# Altium integrated library Silicon Labs Capacitive Touch Sense MCUs.IntLib: 96 symbols (part 1 of 5)
Pins are listed as number, name and electrical type; pins without a type are passive.

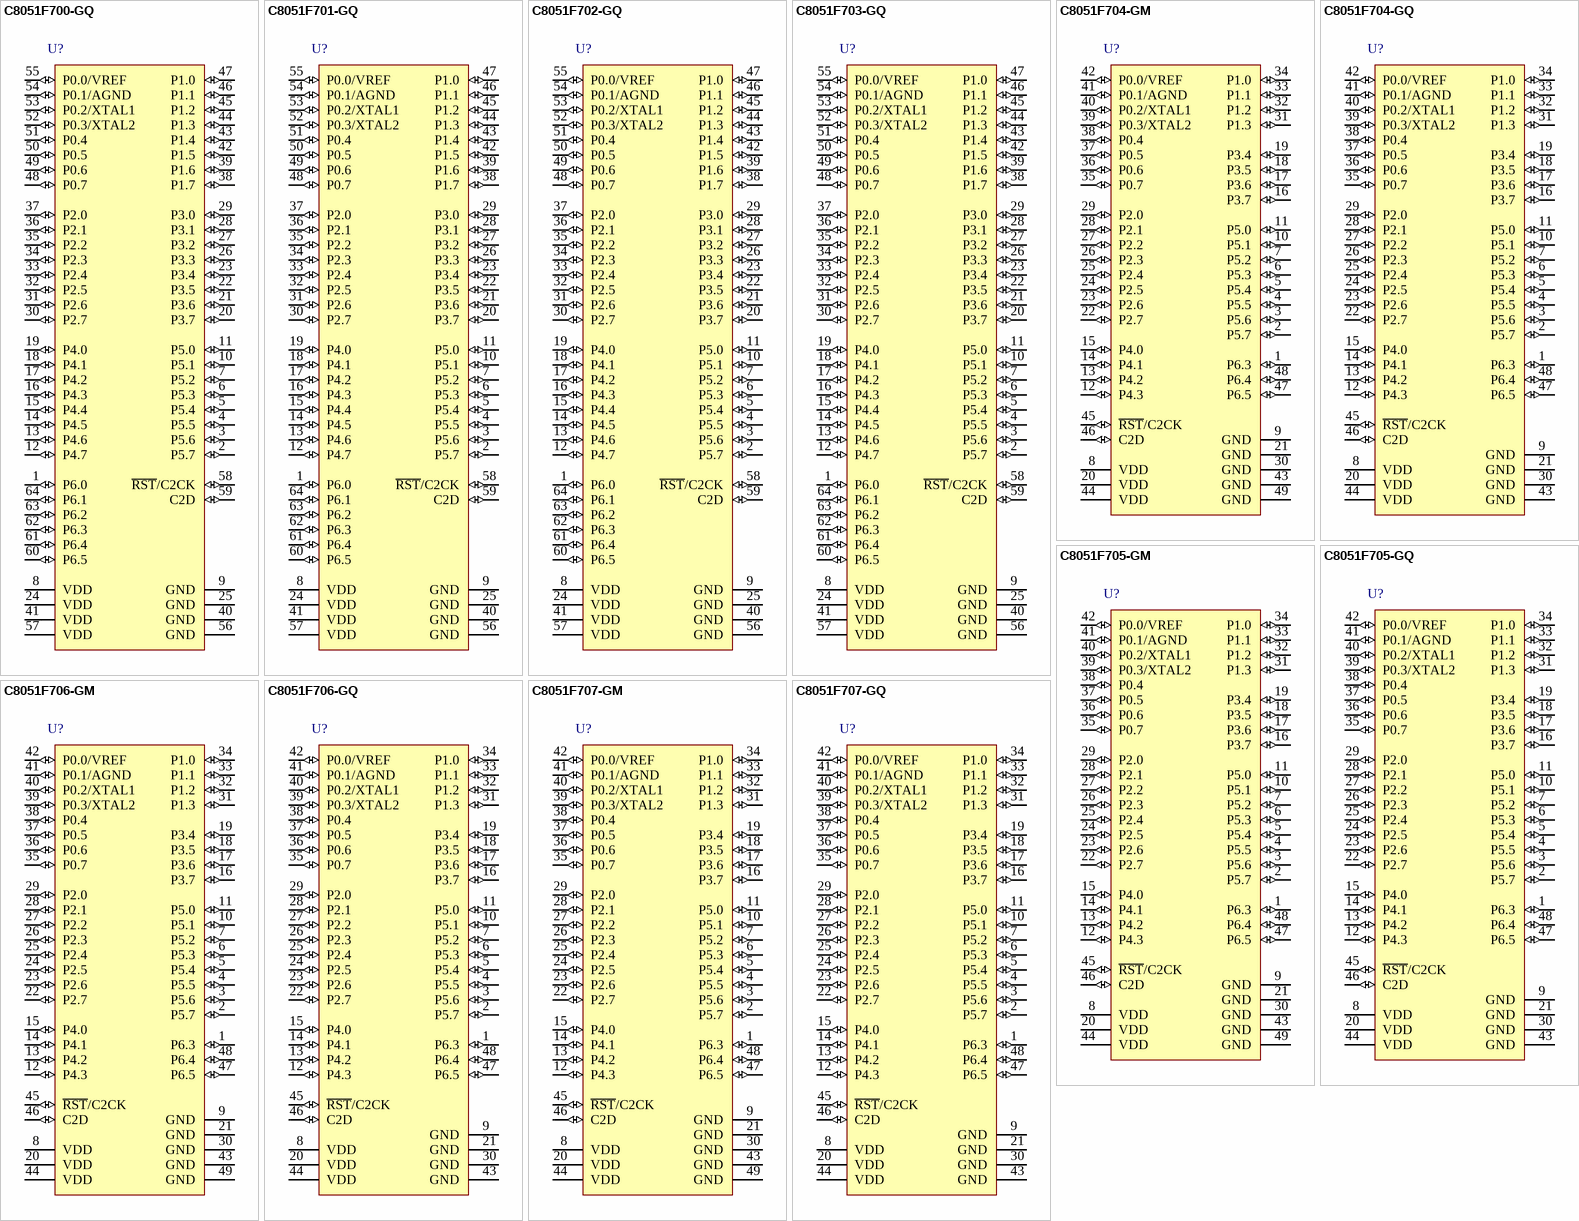
[diagram p0: symbols C8051F700-GQ to C8051F707-GQ]

## C8051F700-GQ
designator U?
Mixed Signal ISP Flash MCU Family, 25 MHz, 0.5 kB RAM, 15 kB Flash, -40 to 85 degC, 64-pin QFP; Manufacturer: Silicon Labs; PartNumber: C8051F700-GQ; ADC 1: 10-bit, 16-ch., 500 ksps; Comparators: 1; Debug Interface: C2; Dig I/O Pins: 54; Flash: 15 kB; Internal Osc. Accuracy: +/-2%; MCU Core: 8051; MHz: 25; PCA Channels: 3; RAM: 0.5 kB; Temp Sensor: TRUE; Timers (16-bit): 4; Sub-Family: Capacitive Touch Sense MCUs; DatasheetVersion: Rev. 1.0; PackageReference: TQFP-64; PackageDescription: 64-Pin Thin Quad Flat Package, Body 10 x 10 mm, Pitch 0.5 mm; Supplier 1: Digi-Key; Supplier Part Number 1: 336-1605-ND; Supplier 2: Mouser; Supplier Part Number 2: 634-C8051F700-GQ; Mounting Technology: Surface Mount; Code_JEDEC: MS-026; Code_IPC: J-STD-020; ComponentLink1Description: Manufacturer URL; ComponentLink1URL: http://www.silabs.com/; ComponentLink2Description: Datasheet; ComponentLink2URL: http://www.silabs.com/Support Documents/TechnicalDocs/C8051F70x.pdf; ComponentLink3Description: Package Specification; ComponentLink3URL: http://www.silabs.com/Support%20Documents/TechnicalDocs/C8051F70x.pdf
footprint SLAB-TQFP-64_N (QFP, 64-Leads, Body 10x10mm, Pitch 0.5mm, IPC Medium Density)
footprint SLAB-TQFP-64_L (QFP, 64-Leads, Body 10x10mm, Pitch 0.5mm, IPC High Density)
footprint SLAB-TQFP-64_M (QFP, 64-Leads, Body 10x10mm, Pitch 0.5mm, IPC Low Density)
pins: 1 P6.0 (io) "Port 6.0. CS0 input pin 33.", 2 P5.7 (io) "Port 5.7. CS0 input pin 32.", 3 P5.6 (io) "Port 5.6. CS0 input pin 31.", 4 P5.5 (io) "Port 5.5. CS0 input pin 30.", 5 P5.4 (io) "Port 5.4. CS0 input pin 29.", 6 P5.3 (io) "Port 5.3. CS0 input pin 28.", 7 P5.2 (io) "Port 5.2. CS0 input pin 27", 8 VDD (power) "Power Supply Voltage", 9 GND (power) "Ground.", 10 P5.1 (io) "Port 5.0. CS0 input pin 26.", 11 P5.0 (io) "Port 5.0. CS0 input pin 25.", 12 P4.7 (io) "Port 4.7. CS0 input pin 24.", 13 P4.6 (io) "Port 4.6. CS0 input pin 23.", 14 P4.5 (io) "Port 4.5. CS0 input pin 22.", 15 P4.4 (io) "Port 4.4. CS0 input pin 21.", 16 P4.3 (io) "Port 4.3. CS0 input pin 20.", 17 P4.2 (io) "Port 4.2. CS0 input pin 19.", 18 P4.1 (io) "Port 4.1. CS0 input pin 18.", 19 P4.0 (io) "Port 4.0. CS0 input pin 17.", 20 P3.7 (io) "Port 3.7. CS0 input pin 16.", 21 P3.6 (io) "Port 3.6. CS0 input pin 15.", 22 P3.5 (io) "Port 3.5. CS0 input pin 14.", 23 P3.4 (io) "Port 3.4. CS0 input pin 13.", 24 VDD (power) "Power Supply Voltage", 25 GND (power) "Ground.", 26 P3.3 (io) "Port 3.3. CS0 input pin 12.", 27 P3.2 (io) "Port 3.2. CS0 input pin 11.", 28 P3.1 (io) "Port 3.1. CS0 input pin 10.", 29 P3.0 (io) "Port 3.0. CS0 input pin 9.", 30 P2.7 (io) "Port 2.7. CS0 input pin 8.", 31 P2.6 (io) "Port 2.6. CS0 input pin 7.", 32 P2.5 (io) "Port 2.5. CS0 input pin 6.", 33 P2.4 (io) "Port 2.4. CS0 input pin 5.", 34 P2.3 (io) "Port 2.3. CS0 input pin 4.", 35 P2.2 (io) "Port 2.2. CS0 input pin 3.", 36 P2.1 (io) "Port 2.1. CS0 input pin 2.", 37 P2.0 (io) "Port 2.0. CS0 input pin 1.", 38 P1.7 (io) "Port 1.7. ADC0 Input.", 39 P1.6 (io) "Port 1.6. ADC0 Input.", 40 GND (power) "Ground.", 41 VDD (power) "Power Supply Voltage", 42 P1.5 (io) "Port 1.5. ADC0 Input.", 43 P1.4 (io) "Port 1.4. ADC0 Input.", 44 P1.3 (io) "Port 1.3. ADC0 Input.", 45 P1.2 (io) "Port 1.2. ADC0 Input.", 46 P1.1 (io) "Port 1.1. ADC0 Input.", 47 P1.0 (io) "Port 1.0. ADC0 Input.", 48 P0.7 (io) "Port 0.7. ADC0 Input.", 49 P0.6 (io) "Port 0.6. ADC0 Input.", 50 P0.5 (io) "Port 0.5. ADC0 Input.", 51 P0.4 (io) "Port 0.4. ADC0 Input.", 52 P0.3/XTAL2 (io), 53 P0.2/XTAL1 (io), 54 P0.1/AGND (io), 55 P0.0/VREF (io), 56 GND (power) "Ground.", 57 VDD (power) "Power Supply Voltage", 58 ~{RST}/C2CK (io), 59 C2D (io) "Bi-directional data signal for the C2 Debug Interface.", 60 P6.5 (io) "Port 6.5. CS0 input pin 38.", 61 P6.4 (io) "Port 6.4. CS0 input pin 37.", 62 P6.3 (io) "Port 6.3. CS0 input pin 36.", 63 P6.2 (io) "Port 6.2. CS0 input pin 35.", 64 P6.1 (io) "Port 6.1. CS0 input pin 34."

## C8051F701-GQ
designator U?
Mixed Signal ISP Flash MCU Family, 25 MHz, 0.5 kB RAM, 15 kB Flash, -40 to 85 degC, 64-pin QFP; Manufacturer: Silicon Labs; PartNumber: C8051F701-GQ; Comparators: 1; Debug Interface: C2; Dig I/O Pins: 54; Flash: 15 kB; Internal Osc. Accuracy: +/-2%; MCU Core: 8051; MHz: 25; PCA Channels: 3; RAM: 0.5 kB; Temp Sensor: FALSE; Timers (16-bit): 4; Sub-Family: Capacitive Touch Sense MCUs; DatasheetVersion: Rev. 1.0; PackageReference: TQFP-64; PackageDescription: 64-Pin Thin Quad Flat Package, Body 10 x 10 mm, Pitch 0.5 mm; Supplier 1: Digi-Key; Supplier Part Number 1: 336-1607-ND; Supplier 2: Mouser; Supplier Part Number 2: 634-C8051F701-GQ; Mounting Technology: Surface Mount; Code_JEDEC: MS-026; Code_IPC: J-STD-020; ComponentLink1Description: Manufacturer URL; ComponentLink1URL: http://www.silabs.com/; ComponentLink2Description: Datasheet; ComponentLink2URL: http://www.silabs.com/Support Documents/TechnicalDocs/C8051F70x.pdf; ComponentLink3Description: Package Specification; ComponentLink3URL: http://www.silabs.com/Support%20Documents/TechnicalDocs/C8051F70x.pdf
footprint SLAB-TQFP-64_N (QFP, 64-Leads, Body 10x10mm, Pitch 0.5mm, IPC Medium Density)
footprint SLAB-TQFP-64_L (QFP, 64-Leads, Body 10x10mm, Pitch 0.5mm, IPC High Density)
footprint SLAB-TQFP-64_M (QFP, 64-Leads, Body 10x10mm, Pitch 0.5mm, IPC Low Density)
pins: 1 P6.0 (io) "Port 6.0. CS0 input pin 33.", 2 P5.7 (io) "Port 5.7. CS0 input pin 32.", 3 P5.6 (io) "Port 5.6. CS0 input pin 31.", 4 P5.5 (io) "Port 5.5. CS0 input pin 30.", 5 P5.4 (io) "Port 5.4. CS0 input pin 29.", 6 P5.3 (io) "Port 5.3. CS0 input pin 28.", 7 P5.2 (io) "Port 5.2. CS0 input pin 27", 8 VDD (power) "Power Supply Voltage", 9 GND (power) "Ground.", 10 P5.1 (io) "Port 5.0. CS0 input pin 26.", 11 P5.0 (io) "Port 5.0. CS0 input pin 25.", 12 P4.7 (io) "Port 4.7. CS0 input pin 24.", 13 P4.6 (io) "Port 4.6. CS0 input pin 23.", 14 P4.5 (io) "Port 4.5. CS0 input pin 22.", 15 P4.4 (io) "Port 4.4. CS0 input pin 21.", 16 P4.3 (io) "Port 4.3. CS0 input pin 20.", 17 P4.2 (io) "Port 4.2. CS0 input pin 19.", 18 P4.1 (io) "Port 4.1. CS0 input pin 18.", 19 P4.0 (io) "Port 4.0. CS0 input pin 17.", 20 P3.7 (io) "Port 3.7. CS0 input pin 16.", 21 P3.6 (io) "Port 3.6. CS0 input pin 15.", 22 P3.5 (io) "Port 3.5. CS0 input pin 14.", 23 P3.4 (io) "Port 3.4. CS0 input pin 13.", 24 VDD (power) "Power Supply Voltage", 25 GND (power) "Ground.", 26 P3.3 (io) "Port 3.3. CS0 input pin 12.", 27 P3.2 (io) "Port 3.2. CS0 input pin 11.", 28 P3.1 (io) "Port 3.1. CS0 input pin 10.", 29 P3.0 (io) "Port 3.0. CS0 input pin 9.", 30 P2.7 (io) "Port 2.7. CS0 input pin 8.", 31 P2.6 (io) "Port 2.6. CS0 input pin 7.", 32 P2.5 (io) "Port 2.5. CS0 input pin 6.", 33 P2.4 (io) "Port 2.4. CS0 input pin 5.", 34 P2.3 (io) "Port 2.3. CS0 input pin 4.", 35 P2.2 (io) "Port 2.2. CS0 input pin 3.", 36 P2.1 (io) "Port 2.1. CS0 input pin 2.", 37 P2.0 (io) "Port 2.0. CS0 input pin 1.", 38 P1.7 (io) "Port 1.7. ADC0 Input.", 39 P1.6 (io) "Port 1.6. ADC0 Input.", 40 GND (power) "Ground.", 41 VDD (power) "Power Supply Voltage", 42 P1.5 (io) "Port 1.5. ADC0 Input.", 43 P1.4 (io) "Port 1.4. ADC0 Input.", 44 P1.3 (io) "Port 1.3. ADC0 Input.", 45 P1.2 (io) "Port 1.2. ADC0 Input.", 46 P1.1 (io) "Port 1.1. ADC0 Input.", 47 P1.0 (io) "Port 1.0. ADC0 Input.", 48 P0.7 (io) "Port 0.7. ADC0 Input.", 49 P0.6 (io) "Port 0.6. ADC0 Input.", 50 P0.5 (io) "Port 0.5. ADC0 Input.", 51 P0.4 (io) "Port 0.4. ADC0 Input.", 52 P0.3/XTAL2 (io), 53 P0.2/XTAL1 (io), 54 P0.1/AGND (io), 55 P0.0/VREF (io), 56 GND (power) "Ground.", 57 VDD (power) "Power Supply Voltage", 58 ~{RST}/C2CK (io), 59 C2D (io) "Bi-directional data signal for the C2 Debug Interface.", 60 P6.5 (io) "Port 6.5. CS0 input pin 38.", 61 P6.4 (io) "Port 6.4. CS0 input pin 37.", 62 P6.3 (io) "Port 6.3. CS0 input pin 36.", 63 P6.2 (io) "Port 6.2. CS0 input pin 35.", 64 P6.1 (io) "Port 6.1. CS0 input pin 34."

## C8051F702-GQ
designator U?
Mixed Signal ISP Flash MCU Family, 25 MHz, 0.5 kB RAM, 16 kB Flash, -40 to 85 degC, 64-pin QFP; Manufacturer: Silicon Labs; PartNumber: C8051F702-GQ; ADC 1: 10-bit, 16-ch., 500 ksps; Comparators: 1; Debug Interface: C2; Dig I/O Pins: 54; Flash: 16 kB; Internal Osc. Accuracy: +/-2%; MCU Core: 8051; MHz: 25; PCA Channels: 3; RAM: 0.5 kB; Temp Sensor: TRUE; Timers (16-bit): 4; Sub-Family: Capacitive Touch Sense MCUs; DatasheetVersion: Rev. 1.0; PackageReference: TQFP-64; PackageDescription: 64-Pin Thin Quad Flat Package, Body 10 x 10 mm, Pitch 0.5 mm; Supplier 1: Digi-Key; Supplier Part Number 1: 336-1608-ND; Supplier 2: Mouser; Supplier Part Number 2: 634-C8051F702-GQ; Mounting Technology: Surface Mount; Code_JEDEC: MS-026; Code_IPC: J-STD-020; ComponentLink1Description: Manufacturer URL; ComponentLink1URL: http://www.silabs.com/; ComponentLink2Description: Datasheet; ComponentLink2URL: http://www.silabs.com/Support Documents/TechnicalDocs/C8051F70x.pdf; ComponentLink3Description: Package Specification; ComponentLink3URL: http://www.silabs.com/Support%20Documents/TechnicalDocs/C8051F70x.pdf
footprint SLAB-TQFP-64_N (QFP, 64-Leads, Body 10x10mm, Pitch 0.5mm, IPC Medium Density)
footprint SLAB-TQFP-64_L (QFP, 64-Leads, Body 10x10mm, Pitch 0.5mm, IPC High Density)
footprint SLAB-TQFP-64_M (QFP, 64-Leads, Body 10x10mm, Pitch 0.5mm, IPC Low Density)
pins: 1 P6.0 (io) "Port 6.0. CS0 input pin 33.", 2 P5.7 (io) "Port 5.7. CS0 input pin 32.", 3 P5.6 (io) "Port 5.6. CS0 input pin 31.", 4 P5.5 (io) "Port 5.5. CS0 input pin 30.", 5 P5.4 (io) "Port 5.4. CS0 input pin 29.", 6 P5.3 (io) "Port 5.3. CS0 input pin 28.", 7 P5.2 (io) "Port 5.2. CS0 input pin 27", 8 VDD (power) "Power Supply Voltage", 9 GND (power) "Ground.", 10 P5.1 (io) "Port 5.0. CS0 input pin 26.", 11 P5.0 (io) "Port 5.0. CS0 input pin 25.", 12 P4.7 (io) "Port 4.7. CS0 input pin 24.", 13 P4.6 (io) "Port 4.6. CS0 input pin 23.", 14 P4.5 (io) "Port 4.5. CS0 input pin 22.", 15 P4.4 (io) "Port 4.4. CS0 input pin 21.", 16 P4.3 (io) "Port 4.3. CS0 input pin 20.", 17 P4.2 (io) "Port 4.2. CS0 input pin 19.", 18 P4.1 (io) "Port 4.1. CS0 input pin 18.", 19 P4.0 (io) "Port 4.0. CS0 input pin 17.", 20 P3.7 (io) "Port 3.7. CS0 input pin 16.", 21 P3.6 (io) "Port 3.6. CS0 input pin 15.", 22 P3.5 (io) "Port 3.5. CS0 input pin 14.", 23 P3.4 (io) "Port 3.4. CS0 input pin 13.", 24 VDD (power) "Power Supply Voltage", 25 GND (power) "Ground.", 26 P3.3 (io) "Port 3.3. CS0 input pin 12.", 27 P3.2 (io) "Port 3.2. CS0 input pin 11.", 28 P3.1 (io) "Port 3.1. CS0 input pin 10.", 29 P3.0 (io) "Port 3.0. CS0 input pin 9.", 30 P2.7 (io) "Port 2.7. CS0 input pin 8.", 31 P2.6 (io) "Port 2.6. CS0 input pin 7.", 32 P2.5 (io) "Port 2.5. CS0 input pin 6.", 33 P2.4 (io) "Port 2.4. CS0 input pin 5.", 34 P2.3 (io) "Port 2.3. CS0 input pin 4.", 35 P2.2 (io) "Port 2.2. CS0 input pin 3.", 36 P2.1 (io) "Port 2.1. CS0 input pin 2.", 37 P2.0 (io) "Port 2.0. CS0 input pin 1.", 38 P1.7 (io) "Port 1.7. ADC0 Input.", 39 P1.6 (io) "Port 1.6. ADC0 Input.", 40 GND (power) "Ground.", 41 VDD (power) "Power Supply Voltage", 42 P1.5 (io) "Port 1.5. ADC0 Input.", 43 P1.4 (io) "Port 1.4. ADC0 Input.", 44 P1.3 (io) "Port 1.3. ADC0 Input.", 45 P1.2 (io) "Port 1.2. ADC0 Input.", 46 P1.1 (io) "Port 1.1. ADC0 Input.", 47 P1.0 (io) "Port 1.0. ADC0 Input.", 48 P0.7 (io) "Port 0.7. ADC0 Input.", 49 P0.6 (io) "Port 0.6. ADC0 Input.", 50 P0.5 (io) "Port 0.5. ADC0 Input.", 51 P0.4 (io) "Port 0.4. ADC0 Input.", 52 P0.3/XTAL2 (io), 53 P0.2/XTAL1 (io), 54 P0.1/AGND (io), 55 P0.0/VREF (io), 56 GND (power) "Ground.", 57 VDD (power) "Power Supply Voltage", 58 ~{RST}/C2CK (io), 59 C2D (io) "Bi-directional data signal for the C2 Debug Interface.", 60 P6.5 (io) "Port 6.5. CS0 input pin 38.", 61 P6.4 (io) "Port 6.4. CS0 input pin 37.", 62 P6.3 (io) "Port 6.3. CS0 input pin 36.", 63 P6.2 (io) "Port 6.2. CS0 input pin 35.", 64 P6.1 (io) "Port 6.1. CS0 input pin 34."

## C8051F703-GQ
designator U?
Mixed Signal ISP Flash MCU Family, 25 MHz, 0.5 kB RAM, 16 kB Flash, -40 to 85 degC, 64-pin QFP; Manufacturer: Silicon Labs; PartNumber: C8051F703-GQ; Comparators: 1; Debug Interface: C2; Dig I/O Pins: 54; Flash: 16 kB; Internal Osc. Accuracy: +/-2%; MCU Core: 8051; MHz: 25; PCA Channels: 3; RAM: 0.5 kB; Temp Sensor: FALSE; Timers (16-bit): 4; Sub-Family: Capacitive Touch Sense MCUs; DatasheetVersion: Rev. 1.0; PackageReference: TQFP-64; PackageDescription: 64-Pin Thin Quad Flat Package, Body 10 x 10 mm, Pitch 0.5 mm; Supplier 1: Digi-Key; Supplier Part Number 1: 336-1609-ND; Supplier 2: Mouser; Supplier Part Number 2: 634-C8051F703-GQ; Mounting Technology: Surface Mount; Code_JEDEC: MS-026; Code_IPC: J-STD-020; ComponentLink1Description: Manufacturer URL; ComponentLink1URL: http://www.silabs.com/; ComponentLink2Description: Datasheet; ComponentLink2URL: http://www.silabs.com/Support Documents/TechnicalDocs/C8051F70x.pdf; ComponentLink3Description: Package Specification; ComponentLink3URL: http://www.silabs.com/Support%20Documents/TechnicalDocs/C8051F70x.pdf
footprint SLAB-TQFP-64_N (QFP, 64-Leads, Body 10x10mm, Pitch 0.5mm, IPC Medium Density)
footprint SLAB-TQFP-64_L (QFP, 64-Leads, Body 10x10mm, Pitch 0.5mm, IPC High Density)
footprint SLAB-TQFP-64_M (QFP, 64-Leads, Body 10x10mm, Pitch 0.5mm, IPC Low Density)
pins: 1 P6.0 (io) "Port 6.0. CS0 input pin 33.", 2 P5.7 (io) "Port 5.7. CS0 input pin 32.", 3 P5.6 (io) "Port 5.6. CS0 input pin 31.", 4 P5.5 (io) "Port 5.5. CS0 input pin 30.", 5 P5.4 (io) "Port 5.4. CS0 input pin 29.", 6 P5.3 (io) "Port 5.3. CS0 input pin 28.", 7 P5.2 (io) "Port 5.2. CS0 input pin 27", 8 VDD (power) "Power Supply Voltage", 9 GND (power) "Ground.", 10 P5.1 (io) "Port 5.0. CS0 input pin 26.", 11 P5.0 (io) "Port 5.0. CS0 input pin 25.", 12 P4.7 (io) "Port 4.7. CS0 input pin 24.", 13 P4.6 (io) "Port 4.6. CS0 input pin 23.", 14 P4.5 (io) "Port 4.5. CS0 input pin 22.", 15 P4.4 (io) "Port 4.4. CS0 input pin 21.", 16 P4.3 (io) "Port 4.3. CS0 input pin 20.", 17 P4.2 (io) "Port 4.2. CS0 input pin 19.", 18 P4.1 (io) "Port 4.1. CS0 input pin 18.", 19 P4.0 (io) "Port 4.0. CS0 input pin 17.", 20 P3.7 (io) "Port 3.7. CS0 input pin 16.", 21 P3.6 (io) "Port 3.6. CS0 input pin 15.", 22 P3.5 (io) "Port 3.5. CS0 input pin 14.", 23 P3.4 (io) "Port 3.4. CS0 input pin 13.", 24 VDD (power) "Power Supply Voltage", 25 GND (power) "Ground.", 26 P3.3 (io) "Port 3.3. CS0 input pin 12.", 27 P3.2 (io) "Port 3.2. CS0 input pin 11.", 28 P3.1 (io) "Port 3.1. CS0 input pin 10.", 29 P3.0 (io) "Port 3.0. CS0 input pin 9.", 30 P2.7 (io) "Port 2.7. CS0 input pin 8.", 31 P2.6 (io) "Port 2.6. CS0 input pin 7.", 32 P2.5 (io) "Port 2.5. CS0 input pin 6.", 33 P2.4 (io) "Port 2.4. CS0 input pin 5.", 34 P2.3 (io) "Port 2.3. CS0 input pin 4.", 35 P2.2 (io) "Port 2.2. CS0 input pin 3.", 36 P2.1 (io) "Port 2.1. CS0 input pin 2.", 37 P2.0 (io) "Port 2.0. CS0 input pin 1.", 38 P1.7 (io) "Port 1.7. ADC0 Input.", 39 P1.6 (io) "Port 1.6. ADC0 Input.", 40 GND (power) "Ground.", 41 VDD (power) "Power Supply Voltage", 42 P1.5 (io) "Port 1.5. ADC0 Input.", 43 P1.4 (io) "Port 1.4. ADC0 Input.", 44 P1.3 (io) "Port 1.3. ADC0 Input.", 45 P1.2 (io) "Port 1.2. ADC0 Input.", 46 P1.1 (io) "Port 1.1. ADC0 Input.", 47 P1.0 (io) "Port 1.0. ADC0 Input.", 48 P0.7 (io) "Port 0.7. ADC0 Input.", 49 P0.6 (io) "Port 0.6. ADC0 Input.", 50 P0.5 (io) "Port 0.5. ADC0 Input.", 51 P0.4 (io) "Port 0.4. ADC0 Input.", 52 P0.3/XTAL2 (io), 53 P0.2/XTAL1 (io), 54 P0.1/AGND (io), 55 P0.0/VREF (io), 56 GND (power) "Ground.", 57 VDD (power) "Power Supply Voltage", 58 ~{RST}/C2CK (io), 59 C2D (io) "Bi-directional data signal for the C2 Debug Interface.", 60 P6.5 (io) "Port 6.5. CS0 input pin 38.", 61 P6.4 (io) "Port 6.4. CS0 input pin 37.", 62 P6.3 (io) "Port 6.3. CS0 input pin 36.", 63 P6.2 (io) "Port 6.2. CS0 input pin 35.", 64 P6.1 (io) "Port 6.1. CS0 input pin 34."

## C8051F704-GM
designator U?
Mixed Signal ISP Flash MCU Family, 25 MHz, 0.5 kB RAM, 15 kB Flash, -40 to 85 degC, 48-pin QFN; Manufacturer: Silicon Labs; PartNumber: C8051F704-GM; ADC 1: 10-bit, 12-ch., 500 ksps; Comparators: 1; Debug Interface: C2; Dig I/O Pins: 39; Flash: 15 kB; Internal Osc. Accuracy: +/-2%; MCU Core: 8051; MHz: 25; PCA Channels: 3; RAM: 0.5 kB; Temp Sensor: TRUE; Timers (16-bit): 4; Sub-Family: Capacitive Touch Sense MCUs; DatasheetVersion: Rev. 1.0; PackageReference: QFN-48; PackageDescription: 48-Pin Quad-Flat No-Leads Package, Body 7 x 7 mm, Pitch 0.5 mm; Supplier 1: Digi-Key; Supplier Part Number 1: 336-1610-5-ND; Supplier 2: Mouser; Supplier Part Number 2: 634-C8051F704-GM; Mounting Technology: Surface Mount; Code_JEDEC: MO-220; Code_IPC: J-STD-020; ComponentLink1Description: Manufacturer URL; ComponentLink1URL: http://www.silabs.com/; ComponentLink2Description: Datasheet; ComponentLink2URL: http://www.silabs.com/Support Documents/TechnicalDocs/C8051F70x.pdf; ComponentLink3Description: Package Specification; ComponentLink3URL: http://www.silabs.com/Support%20Documents/TechnicalDocs/C8051F50x-51x.pdf
footprint SLAB-QFN-48-4000x4000TP_N (QFN, 48-Leads, Body 7x7mm, Pitch 0.5mm, Thermal Pad 4x4mm, IPC Medium Density)
footprint SLAB-QFN-48-4000x4000TP_L (QFN, 48-Leads, Body 7x7mm, Pitch 0.5mm, Thermal Pad 4x4mm, IPC High Density)
footprint SLAB-QFN-48-4000x4000TP_M (QFN, 48-Leads, Body 7x7mm, Pitch 0.5mm, Thermal Pad 4x4mm, IPC Low Density)
pins: 1 P6.3 (io) "Port 6.3.CS0 input pin 36.", 2 P5.7 (io) "Port 5.7.CS0 input pin 32.", 3 P5.6 (io) "Port 5.6.CS0 input pin 31.", 4 P5.5 (io) "Port 5.5.CS0 input pin 30.", 5 P5.4 (io) "Port 5.4.CS0 input pin 29.", 6 P5.3 (io) "Port 5.3.CS0 input pin 28.", 7 P5.2 (io) "Port 5.2.CS0 input pin 27", 8 VDD (power) "Power Supply Voltage.", 9 GND (power) "Ground.", 10 P5.1 (io) "Port 5.1.CS0 input pin 26.", 11 P5.0 (io) "Port 5.0.CS0 input pin 25.", 12 P4.3 (io) "Port 4.3.CS0 input pin 20.", 13 P4.2 (io) "Port 4.2.CS0 input pin 19.", 14 P4.1 (io) "Port 4.1.CS0 input pin 18.", 15 P4.0 (io) "Port 4.0.CS0 input pin 17.", 16 P3.7 (io) "Port 3.7.CS0 input pin 16.", 17 P3.6 (io) "Port 3.6.CS0 input pin 15.", 18 P3.5 (io) "Port 3.5.CS0 input pin 14.", 19 P3.4 (io) "Port 3.4.CS0 input pin 13.", 20 VDD (power) "Power Supply Voltage.", 21 GND (power) "Ground.", 22 P2.7 (io) "Port 2.7.CS0 input pin 8.", 23 P2.6 (io) "Port 2.6.CS0 input pin 7.", 24 P2.5 (io) "Port 2.5.CS0 input pin 6.", 25 P2.4 (io) "Port 2.4.CS0 input pin 5.", 26 P2.3 (io) "Port 2.3.CS0 input pin 4.", 27 P2.2 (io) "Port 2.2.CS0 input pin 3.", 28 P2.1 (io) "Port 2.1.CS0 input pin 2.", 29 P2.0 (io) "Port 2.0.CS0 input pin 1.", 30 GND (power) "Ground.", 31 P1.3 (io) "Port 1.3.ADC0 Input.", 32 P1.2 (io) "Port 1.2.ADC0 Input.", 33 P1.1 (io) "Port 1.1.ADC0 Input.", 34 P1.0 (io) "Port 1.0.ADC0 Input.", 35 P0.7 (io) "Port 0.7.ADC0 Input.", 36 P0.6 (io) "Port 0.6.ADC0 Input.", 37 P0.5 (io) "Port 0.5.ADC0 Input.", 38 P0.4 (io) "Port 0.4.ADC0 Input.", 39 P0.3/XTAL2 (io), 40 P0.2/XTAL1 (io), 41 P0.1/AGND (io), 42 P0.0/VREF (io), 43 GND (power) "Ground.", 44 VDD (power) "Power Supply Voltage.", 45 ~{RST}/C2CK (io), 46 C2D (io) "Bi-directional data signal for the C2 Debug Interface.", 47 P6.5 (io) "Port 6.5.CS0 input pin 38.", 48 P6.4 (io) "Port 6.4.CS0 input pin 37.", 49 GND (power) "Ground."

## C8051F704-GQ
designator U?
Mixed Signal ISP Flash MCU Family, 25 MHz, 0.5 kB RAM, 15 kB Flash, -40 to 85 degC, 48-pin QFP; Manufacturer: Silicon Labs; PartNumber: C8051F704-GQ; ADC 1: 10-bit, 12-ch., 500 ksps; Comparators: 1; Debug Interface: C2; Dig I/O Pins: 39; Flash: 15 kB; Internal Osc. Accuracy: +/-2%; MCU Core: 8051; MHz: 25; PCA Channels: 3; RAM: 0.5 kB; Temp Sensor: TRUE; Timers (16-bit): 4; Sub-Family: Capacitive Touch Sense MCUs; DatasheetVersion: Rev. 1.0; PackageReference: TQFP-48; PackageDescription: 48-pin TQFP, Body 7 x 7 mm, Pitch 0.5 mm; Supplier 1: Digi-Key; Supplier Part Number 1: 336-1611-ND; Supplier 2: Mouser; Supplier Part Number 2: 634-C8051F704-GQ; Mounting Technology: Surface Mount; Code_JEDEC: MS-026; Code_IPC: J-STD-020; ComponentLink1Description: Manufacturer URL; ComponentLink1URL: http://www.silabs.com/; ComponentLink2Description: Datasheet; ComponentLink2URL: http://www.silabs.com/Support Documents/TechnicalDocs/C8051F70x.pdf; ComponentLink3Description: Package Specification; ComponentLink3URL: http://www.silabs.com/Support%20Documents/TechnicalDocs/CP2200.pdf
footprint SLAB-TQFP-48_N (QFP, 48-Leads, Body 7x7mm, Pitch 0.5mm, IPC Medium Density)
footprint SLAB-TQFP-48_L (QFP, 48-Leads, Body 7x7mm, Pitch 0.5mm, IPC High Density)
footprint SLAB-TQFP-48_M (QFP, 48-Leads, Body 7x7mm, Pitch 0.5mm, IPC Low Density)
pins: 1 P6.3 (io) "Port 6.3.", 2 P5.7 (io) "Port 5.7.", 3 P5.6 (io) "Port 5.6.", 4 P5.5 (io) "Port 5.5.", 5 P5.4 (io) "Port 5.4.", 6 P5.3 (io) "Port 5.3.", 7 P5.2 (io) "Port 5.2.", 8 VDD (power) "Power Supply Voltage.", 9 GND (power) "Ground.", 10 P5.1 (io) "Port 5.1.", 11 P5.0 (io) "Port 5.0.", 12 P4.3 (io) "Port 4.3.", 13 P4.2 (io) "Port 4.2.", 14 P4.1 (io) "Port 4.1.", 15 P4.0 (io) "Port 4.0.", 16 P3.7 (io) "Port 3.7.", 17 P3.6 (io) "Port 3.6.", 18 P3.5 (io) "Port 3.5.", 19 P3.4 (io) "Port 3.4.", 20 VDD (power) "Power Supply Voltage.", 21 GND (power) "Ground.", 22 P2.7 (io) "Port 2.7.", 23 P2.6 (io) "Port 2.6.", 24 P2.5 (io) "Port 2.5.", 25 P2.4 (io) "Port 2.4.", 26 P2.3 (io) "Port 2.3.", 27 P2.2 (io) "Port 2.2.", 28 P2.1 (io) "Port 2.1.", 29 P2.0 (io) "Port 2.0.", 30 GND (power) "Ground.", 31 P1.3 (io) "Port 1.3.", 32 P1.2 (io) "Port 1.2.", 33 P1.1 (io) "Port 1.1.", 34 P1.0 (io) "Port 1.0.", 35 P0.7 (io) "Port 0.7.", 36 P0.6 (io) "Port 0.6.", 37 P0.5 (io) "Port 0.5.", 38 P0.4 (io) "Port 0.4.", 39 P0.3/XTAL2 (io), 40 P0.2/XTAL1 (io), 41 P0.1/AGND (io), 42 P0.0/VREF (io), 43 GND (power) "Ground.", 44 VDD (power) "Power Supply Voltage.", 45 ~{RST}/C2CK (io), 46 C2D (io) "Bi-directional data signal for the C2 Debug Interface.", 47 P6.5 (io) "Port 6.5.", 48 P6.4 (io) "Port 6.4."

## C8051F705-GM
designator U?
Mixed Signal ISP Flash MCU Family, 25 MHz, 0.5 kB RAM, 15 kB Flash, -40 to 85 degC, 48-pin QFN; Manufacturer: Silicon Labs; PartNumber: C8051F705-GM; Comparators: 1; Debug Interface: C2; Dig I/O Pins: 39; Flash: 15 kB; Internal Osc. Accuracy: +/-2%; MCU Core: 8051; MHz: 25; PCA Channels: 3; RAM: 0.5 kB; Temp Sensor: FALSE; Timers (16-bit): 4; Sub-Family: Capacitive Touch Sense MCUs; DatasheetVersion: Rev. 1.0; PackageReference: QFN-48; PackageDescription: 48-Pin Quad-Flat No-Leads Package, Body 7 x 7 mm, Pitch 0.5 mm; Supplier 1: Digi-Key; Supplier Part Number 1: 336-1612-5-ND; Supplier 2: Mouser; Supplier Part Number 2: 634-C8051F705-GM; Mounting Technology: Surface Mount; Code_JEDEC: MO-220; Code_IPC: J-STD-020; ComponentLink1Description: Manufacturer URL; ComponentLink1URL: http://www.silabs.com/; ComponentLink2Description: Datasheet; ComponentLink2URL: http://www.silabs.com/Support Documents/TechnicalDocs/C8051F70x.pdf; ComponentLink3Description: Package Specification; ComponentLink3URL: http://www.silabs.com/Support%20Documents/TechnicalDocs/C8051F50x-51x.pdf
footprint SLAB-QFN-48-4000x4000TP_N (QFN, 48-Leads, Body 7x7mm, Pitch 0.5mm, Thermal Pad 4x4mm, IPC Medium Density)
footprint SLAB-QFN-48-4000x4000TP_L (QFN, 48-Leads, Body 7x7mm, Pitch 0.5mm, Thermal Pad 4x4mm, IPC High Density)
footprint SLAB-QFN-48-4000x4000TP_M (QFN, 48-Leads, Body 7x7mm, Pitch 0.5mm, Thermal Pad 4x4mm, IPC Low Density)
pins: 1 P6.3 (io) "Port 6.3.CS0 input pin 36.", 2 P5.7 (io) "Port 5.7.CS0 input pin 32.", 3 P5.6 (io) "Port 5.6.CS0 input pin 31.", 4 P5.5 (io) "Port 5.5.CS0 input pin 30.", 5 P5.4 (io) "Port 5.4.CS0 input pin 29.", 6 P5.3 (io) "Port 5.3.CS0 input pin 28.", 7 P5.2 (io) "Port 5.2.CS0 input pin 27", 8 VDD (power) "Power Supply Voltage.", 9 GND (power) "Ground.", 10 P5.1 (io) "Port 5.1.CS0 input pin 26.", 11 P5.0 (io) "Port 5.0.CS0 input pin 25.", 12 P4.3 (io) "Port 4.3.CS0 input pin 20.", 13 P4.2 (io) "Port 4.2.CS0 input pin 19.", 14 P4.1 (io) "Port 4.1.CS0 input pin 18.", 15 P4.0 (io) "Port 4.0.CS0 input pin 17.", 16 P3.7 (io) "Port 3.7.CS0 input pin 16.", 17 P3.6 (io) "Port 3.6.CS0 input pin 15.", 18 P3.5 (io) "Port 3.5.CS0 input pin 14.", 19 P3.4 (io) "Port 3.4.CS0 input pin 13.", 20 VDD (power) "Power Supply Voltage.", 21 GND (power) "Ground.", 22 P2.7 (io) "Port 2.7.CS0 input pin 8.", 23 P2.6 (io) "Port 2.6.CS0 input pin 7.", 24 P2.5 (io) "Port 2.5.CS0 input pin 6.", 25 P2.4 (io) "Port 2.4.CS0 input pin 5.", 26 P2.3 (io) "Port 2.3.CS0 input pin 4.", 27 P2.2 (io) "Port 2.2.CS0 input pin 3.", 28 P2.1 (io) "Port 2.1.CS0 input pin 2.", 29 P2.0 (io) "Port 2.0.CS0 input pin 1.", 30 GND (power) "Ground.", 31 P1.3 (io) "Port 1.3.ADC0 Input.", 32 P1.2 (io) "Port 1.2.ADC0 Input.", 33 P1.1 (io) "Port 1.1.ADC0 Input.", 34 P1.0 (io) "Port 1.0.ADC0 Input.", 35 P0.7 (io) "Port 0.7.ADC0 Input.", 36 P0.6 (io) "Port 0.6.ADC0 Input.", 37 P0.5 (io) "Port 0.5.ADC0 Input.", 38 P0.4 (io) "Port 0.4.ADC0 Input.", 39 P0.3/XTAL2 (io), 40 P0.2/XTAL1 (io), 41 P0.1/AGND (io), 42 P0.0/VREF (io), 43 GND (power) "Ground.", 44 VDD (power) "Power Supply Voltage.", 45 ~{RST}/C2CK (io), 46 C2D (io) "Bi-directional data signal for the C2 Debug Interface.", 47 P6.5 (io) "Port 6.5.CS0 input pin 38.", 48 P6.4 (io) "Port 6.4.CS0 input pin 37.", 49 GND (power) "Ground."

## C8051F705-GQ
designator U?
Mixed Signal ISP Flash MCU Family, 25 MHz, 0.5 kB RAM, 15 kB Flash, -40 to 85 degC, 48-pin QFP; Manufacturer: Silicon Labs; PartNumber: C8051F705-GQ; Comparators: 1; Debug Interface: C2; Dig I/O Pins: 39; Flash: 15 kB; Internal Osc. Accuracy: +/-2%; MCU Core: 8051; MHz: 25; PCA Channels: 3; RAM: 0.5 kB; Temp Sensor: FALSE; Timers (16-bit): 4; Sub-Family: Capacitive Touch Sense MCUs; DatasheetVersion: Rev. 1.0; PackageReference: TQFP-48; PackageDescription: 48-pin TQFP, Body 7 x 7 mm, Pitch 0.5 mm; Supplier 1: Digi-Key; Supplier Part Number 1: 336-1613-ND; Supplier 2: Mouser; Supplier Part Number 2: 634-C8051F705-GQ; Mounting Technology: Surface Mount; Code_JEDEC: MS-026; Code_IPC: J-STD-020; ComponentLink1Description: Manufacturer URL; ComponentLink1URL: http://www.silabs.com/; ComponentLink2Description: Datasheet; ComponentLink2URL: http://www.silabs.com/Support Documents/TechnicalDocs/C8051F70x.pdf; ComponentLink3Description: Package Specification; ComponentLink3URL: http://www.silabs.com/Support%20Documents/TechnicalDocs/CP2200.pdf
footprint SLAB-TQFP-48_N (QFP, 48-Leads, Body 7x7mm, Pitch 0.5mm, IPC Medium Density)
footprint SLAB-TQFP-48_L (QFP, 48-Leads, Body 7x7mm, Pitch 0.5mm, IPC High Density)
footprint SLAB-TQFP-48_M (QFP, 48-Leads, Body 7x7mm, Pitch 0.5mm, IPC Low Density)
pins: 1 P6.3 (io) "Port 6.3.", 2 P5.7 (io) "Port 5.7.", 3 P5.6 (io) "Port 5.6.", 4 P5.5 (io) "Port 5.5.", 5 P5.4 (io) "Port 5.4.", 6 P5.3 (io) "Port 5.3.", 7 P5.2 (io) "Port 5.2.", 8 VDD (power) "Power Supply Voltage.", 9 GND (power) "Ground.", 10 P5.1 (io) "Port 5.1.", 11 P5.0 (io) "Port 5.0.", 12 P4.3 (io) "Port 4.3.", 13 P4.2 (io) "Port 4.2.", 14 P4.1 (io) "Port 4.1.", 15 P4.0 (io) "Port 4.0.", 16 P3.7 (io) "Port 3.7.", 17 P3.6 (io) "Port 3.6.", 18 P3.5 (io) "Port 3.5.", 19 P3.4 (io) "Port 3.4.", 20 VDD (power) "Power Supply Voltage.", 21 GND (power) "Ground.", 22 P2.7 (io) "Port 2.7.", 23 P2.6 (io) "Port 2.6.", 24 P2.5 (io) "Port 2.5.", 25 P2.4 (io) "Port 2.4.", 26 P2.3 (io) "Port 2.3.", 27 P2.2 (io) "Port 2.2.", 28 P2.1 (io) "Port 2.1.", 29 P2.0 (io) "Port 2.0.", 30 GND (power) "Ground.", 31 P1.3 (io) "Port 1.3.", 32 P1.2 (io) "Port 1.2.", 33 P1.1 (io) "Port 1.1.", 34 P1.0 (io) "Port 1.0.", 35 P0.7 (io) "Port 0.7.", 36 P0.6 (io) "Port 0.6.", 37 P0.5 (io) "Port 0.5.", 38 P0.4 (io) "Port 0.4.", 39 P0.3/XTAL2 (io), 40 P0.2/XTAL1 (io), 41 P0.1/AGND (io), 42 P0.0/VREF (io), 43 GND (power) "Ground.", 44 VDD (power) "Power Supply Voltage.", 45 ~{RST}/C2CK (io), 46 C2D (io) "Bi-directional data signal for the C2 Debug Interface.", 47 P6.5 (io) "Port 6.5.", 48 P6.4 (io) "Port 6.4."

## C8051F706-GM
designator U?
Mixed Signal ISP Flash MCU Family, 25 MHz, 0.5 kB RAM, 16 kB Flash, -40 to 85 degC, 48-pin QFN; Manufacturer: Silicon Labs; PartNumber: C8051F706-GM; ADC 1: 10-bit, 12-ch., 500 ksps; Comparators: 1; Debug Interface: C2; Dig I/O Pins: 39; Flash: 16 kB; Internal Osc. Accuracy: +/-2%; MCU Core: 8051; MHz: 25; PCA Channels: 3; RAM: 0.5 kB; Temp Sensor: TRUE; Timers (16-bit): 4; Sub-Family: Capacitive Touch Sense MCUs; DatasheetVersion: Rev. 1.0; PackageReference: QFN-48; PackageDescription: 48-Pin Quad-Flat No-Leads Package, Body 7 x 7 mm, Pitch 0.5 mm; Supplier 1: Digi-Key; Supplier Part Number 1: 336-1604-5-ND; Supplier 2: Mouser; Supplier Part Number 2: 634-C8051F706-GM; Mounting Technology: Surface Mount; Code_JEDEC: MO-220; Code_IPC: J-STD-020; ComponentLink1Description: Manufacturer URL; ComponentLink1URL: http://www.silabs.com/; ComponentLink2Description: Datasheet; ComponentLink2URL: http://www.silabs.com/Support Documents/TechnicalDocs/C8051F70x.pdf; ComponentLink3Description: Package Specification; ComponentLink3URL: http://www.silabs.com/Support%20Documents/TechnicalDocs/C8051F50x-51x.pdf
footprint SLAB-QFN-48-4000x4000TP_N (QFN, 48-Leads, Body 7x7mm, Pitch 0.5mm, Thermal Pad 4x4mm, IPC Medium Density)
footprint SLAB-QFN-48-4000x4000TP_L (QFN, 48-Leads, Body 7x7mm, Pitch 0.5mm, Thermal Pad 4x4mm, IPC High Density)
footprint SLAB-QFN-48-4000x4000TP_M (QFN, 48-Leads, Body 7x7mm, Pitch 0.5mm, Thermal Pad 4x4mm, IPC Low Density)
pins: 1 P6.3 (io) "Port 6.3.CS0 input pin 36.", 2 P5.7 (io) "Port 5.7.CS0 input pin 32.", 3 P5.6 (io) "Port 5.6.CS0 input pin 31.", 4 P5.5 (io) "Port 5.5.CS0 input pin 30.", 5 P5.4 (io) "Port 5.4.CS0 input pin 29.", 6 P5.3 (io) "Port 5.3.CS0 input pin 28.", 7 P5.2 (io) "Port 5.2.CS0 input pin 27", 8 VDD (power) "Power Supply Voltage.", 9 GND (power) "Ground.", 10 P5.1 (io) "Port 5.1.CS0 input pin 26.", 11 P5.0 (io) "Port 5.0.CS0 input pin 25.", 12 P4.3 (io) "Port 4.3.CS0 input pin 20.", 13 P4.2 (io) "Port 4.2.CS0 input pin 19.", 14 P4.1 (io) "Port 4.1.CS0 input pin 18.", 15 P4.0 (io) "Port 4.0.CS0 input pin 17.", 16 P3.7 (io) "Port 3.7.CS0 input pin 16.", 17 P3.6 (io) "Port 3.6.CS0 input pin 15.", 18 P3.5 (io) "Port 3.5.CS0 input pin 14.", 19 P3.4 (io) "Port 3.4.CS0 input pin 13.", 20 VDD (power) "Power Supply Voltage.", 21 GND (power) "Ground.", 22 P2.7 (io) "Port 2.7.CS0 input pin 8.", 23 P2.6 (io) "Port 2.6.CS0 input pin 7.", 24 P2.5 (io) "Port 2.5.CS0 input pin 6.", 25 P2.4 (io) "Port 2.4.CS0 input pin 5.", 26 P2.3 (io) "Port 2.3.CS0 input pin 4.", 27 P2.2 (io) "Port 2.2.CS0 input pin 3.", 28 P2.1 (io) "Port 2.1.CS0 input pin 2.", 29 P2.0 (io) "Port 2.0.CS0 input pin 1.", 30 GND (power) "Ground.", 31 P1.3 (io) "Port 1.3.ADC0 Input.", 32 P1.2 (io) "Port 1.2.ADC0 Input.", 33 P1.1 (io) "Port 1.1.ADC0 Input.", 34 P1.0 (io) "Port 1.0.ADC0 Input.", 35 P0.7 (io) "Port 0.7.ADC0 Input.", 36 P0.6 (io) "Port 0.6.ADC0 Input.", 37 P0.5 (io) "Port 0.5.ADC0 Input.", 38 P0.4 (io) "Port 0.4.ADC0 Input.", 39 P0.3/XTAL2 (io), 40 P0.2/XTAL1 (io), 41 P0.1/AGND (io), 42 P0.0/VREF (io), 43 GND (power) "Ground.", 44 VDD (power) "Power Supply Voltage.", 45 ~{RST}/C2CK (io), 46 C2D (io) "Bi-directional data signal for the C2 Debug Interface.", 47 P6.5 (io) "Port 6.5.CS0 input pin 38.", 48 P6.4 (io) "Port 6.4.CS0 input pin 37.", 49 GND (power) "Ground."

## C8051F706-GQ
designator U?
Mixed Signal ISP Flash MCU Family, 25 MHz, 0.5 kB RAM, 16 kB Flash, -40 to 85 degC, 48-pin QFP; Manufacturer: Silicon Labs; PartNumber: C8051F706-GQ; ADC 1: 10-bit, 12-ch., 500 ksps; Comparators: 1; Debug Interface: C2; Dig I/O Pins: 39; Flash: 16 kB; Internal Osc. Accuracy: +/-2%; MCU Core: 8051; MHz: 25; PCA Channels: 3; RAM: 0.5 kB; Temp Sensor: TRUE; Timers (16-bit): 4; Sub-Family: Capacitive Touch Sense MCUs; DatasheetVersion: Rev. 1.0; PackageReference: TQFP-48; PackageDescription: 48-pin TQFP, Body 7 x 7 mm, Pitch 0.5 mm; Supplier 1: Digi-Key; Supplier Part Number 1: 336-1636-ND; Supplier 2: Mouser; Supplier Part Number 2: 634-C8051F706-GQ; Mounting Technology: Surface Mount; Code_JEDEC: MS-026; Code_IPC: J-STD-020; ComponentLink1Description: Manufacturer URL; ComponentLink1URL: http://www.silabs.com/; ComponentLink2Description: Datasheet; ComponentLink2URL: http://www.silabs.com/Support Documents/TechnicalDocs/C8051F70x.pdf; ComponentLink3Description: Package Specification; ComponentLink3URL: http://www.silabs.com/Support%20Documents/TechnicalDocs/CP2200.pdf
footprint SLAB-TQFP-48_N (QFP, 48-Leads, Body 7x7mm, Pitch 0.5mm, IPC Medium Density)
footprint SLAB-TQFP-48_L (QFP, 48-Leads, Body 7x7mm, Pitch 0.5mm, IPC High Density)
footprint SLAB-TQFP-48_M (QFP, 48-Leads, Body 7x7mm, Pitch 0.5mm, IPC Low Density)
pins: 1 P6.3 (io) "Port 6.3.", 2 P5.7 (io) "Port 5.7.", 3 P5.6 (io) "Port 5.6.", 4 P5.5 (io) "Port 5.5.", 5 P5.4 (io) "Port 5.4.", 6 P5.3 (io) "Port 5.3.", 7 P5.2 (io) "Port 5.2.", 8 VDD (power) "Power Supply Voltage.", 9 GND (power) "Ground.", 10 P5.1 (io) "Port 5.1.", 11 P5.0 (io) "Port 5.0.", 12 P4.3 (io) "Port 4.3.", 13 P4.2 (io) "Port 4.2.", 14 P4.1 (io) "Port 4.1.", 15 P4.0 (io) "Port 4.0.", 16 P3.7 (io) "Port 3.7.", 17 P3.6 (io) "Port 3.6.", 18 P3.5 (io) "Port 3.5.", 19 P3.4 (io) "Port 3.4.", 20 VDD (power) "Power Supply Voltage.", 21 GND (power) "Ground.", 22 P2.7 (io) "Port 2.7.", 23 P2.6 (io) "Port 2.6.", 24 P2.5 (io) "Port 2.5.", 25 P2.4 (io) "Port 2.4.", 26 P2.3 (io) "Port 2.3.", 27 P2.2 (io) "Port 2.2.", 28 P2.1 (io) "Port 2.1.", 29 P2.0 (io) "Port 2.0.", 30 GND (power) "Ground.", 31 P1.3 (io) "Port 1.3.", 32 P1.2 (io) "Port 1.2.", 33 P1.1 (io) "Port 1.1.", 34 P1.0 (io) "Port 1.0.", 35 P0.7 (io) "Port 0.7.", 36 P0.6 (io) "Port 0.6.", 37 P0.5 (io) "Port 0.5.", 38 P0.4 (io) "Port 0.4.", 39 P0.3/XTAL2 (io), 40 P0.2/XTAL1 (io), 41 P0.1/AGND (io), 42 P0.0/VREF (io), 43 GND (power) "Ground.", 44 VDD (power) "Power Supply Voltage.", 45 ~{RST}/C2CK (io), 46 C2D (io) "Bi-directional data signal for the C2 Debug Interface.", 47 P6.5 (io) "Port 6.5.", 48 P6.4 (io) "Port 6.4."

## C8051F707-GM
designator U?
Mixed Signal ISP Flash MCU Family, 25 MHz, 0.5 kB RAM, 16 kB Flash, -40 to 85 degC, 48-pin QFN; Manufacturer: Silicon Labs; PartNumber: C8051F707-GM; Comparators: 1; Debug Interface: C2; Dig I/O Pins: 39; Flash: 16 kB; Internal Osc. Accuracy: +/-2%; MCU Core: 8051; MHz: 25; PCA Channels: 3; RAM: 0.5 kB; Temp Sensor: FALSE; Timers (16-bit): 4; Sub-Family: Capacitive Touch Sense MCUs; DatasheetVersion: Rev. 1.0; PackageReference: QFN-48; PackageDescription: 48-Pin Quad-Flat No-Leads Package, Body 7 x 7 mm, Pitch 0.5 mm; Supplier 1: Digi-Key; Supplier Part Number 1: 336-1606-5-ND; Supplier 2: Mouser; Supplier Part Number 2: 634-C8051F707-GM; Mounting Technology: Surface Mount; Code_JEDEC: MO-220; Code_IPC: J-STD-020; ComponentLink1Description: Manufacturer URL; ComponentLink1URL: http://www.silabs.com/; ComponentLink2Description: Datasheet; ComponentLink2URL: http://www.silabs.com/Support Documents/TechnicalDocs/C8051F70x.pdf; ComponentLink3Description: Package Specification; ComponentLink3URL: http://www.silabs.com/Support%20Documents/TechnicalDocs/C8051F50x-51x.pdf
footprint SLAB-QFN-48-4000x4000TP_N (QFN, 48-Leads, Body 7x7mm, Pitch 0.5mm, Thermal Pad 4x4mm, IPC Medium Density)
footprint SLAB-QFN-48-4000x4000TP_L (QFN, 48-Leads, Body 7x7mm, Pitch 0.5mm, Thermal Pad 4x4mm, IPC High Density)
footprint SLAB-QFN-48-4000x4000TP_M (QFN, 48-Leads, Body 7x7mm, Pitch 0.5mm, Thermal Pad 4x4mm, IPC Low Density)
pins: 1 P6.3 (io) "Port 6.3.CS0 input pin 36.", 2 P5.7 (io) "Port 5.7.CS0 input pin 32.", 3 P5.6 (io) "Port 5.6.CS0 input pin 31.", 4 P5.5 (io) "Port 5.5.CS0 input pin 30.", 5 P5.4 (io) "Port 5.4.CS0 input pin 29.", 6 P5.3 (io) "Port 5.3.CS0 input pin 28.", 7 P5.2 (io) "Port 5.2.CS0 input pin 27", 8 VDD (power) "Power Supply Voltage.", 9 GND (power) "Ground.", 10 P5.1 (io) "Port 5.1.CS0 input pin 26.", 11 P5.0 (io) "Port 5.0.CS0 input pin 25.", 12 P4.3 (io) "Port 4.3.CS0 input pin 20.", 13 P4.2 (io) "Port 4.2.CS0 input pin 19.", 14 P4.1 (io) "Port 4.1.CS0 input pin 18.", 15 P4.0 (io) "Port 4.0.CS0 input pin 17.", 16 P3.7 (io) "Port 3.7.CS0 input pin 16.", 17 P3.6 (io) "Port 3.6.CS0 input pin 15.", 18 P3.5 (io) "Port 3.5.CS0 input pin 14.", 19 P3.4 (io) "Port 3.4.CS0 input pin 13.", 20 VDD (power) "Power Supply Voltage.", 21 GND (power) "Ground.", 22 P2.7 (io) "Port 2.7.CS0 input pin 8.", 23 P2.6 (io) "Port 2.6.CS0 input pin 7.", 24 P2.5 (io) "Port 2.5.CS0 input pin 6.", 25 P2.4 (io) "Port 2.4.CS0 input pin 5.", 26 P2.3 (io) "Port 2.3.CS0 input pin 4.", 27 P2.2 (io) "Port 2.2.CS0 input pin 3.", 28 P2.1 (io) "Port 2.1.CS0 input pin 2.", 29 P2.0 (io) "Port 2.0.CS0 input pin 1.", 30 GND (power) "Ground.", 31 P1.3 (io) "Port 1.3.ADC0 Input.", 32 P1.2 (io) "Port 1.2.ADC0 Input.", 33 P1.1 (io) "Port 1.1.ADC0 Input.", 34 P1.0 (io) "Port 1.0.ADC0 Input.", 35 P0.7 (io) "Port 0.7.ADC0 Input.", 36 P0.6 (io) "Port 0.6.ADC0 Input.", 37 P0.5 (io) "Port 0.5.ADC0 Input.", 38 P0.4 (io) "Port 0.4.ADC0 Input.", 39 P0.3/XTAL2 (io), 40 P0.2/XTAL1 (io), 41 P0.1/AGND (io), 42 P0.0/VREF (io), 43 GND (power) "Ground.", 44 VDD (power) "Power Supply Voltage.", 45 ~{RST}/C2CK (io), 46 C2D (io) "Bi-directional data signal for the C2 Debug Interface.", 47 P6.5 (io) "Port 6.5.CS0 input pin 38.", 48 P6.4 (io) "Port 6.4.CS0 input pin 37.", 49 GND (power) "Ground."

## C8051F707-GQ
designator U?
Mixed Signal ISP Flash MCU Family, 25 MHz, 0.5 kB RAM, 16 kB Flash, -40 to 85 degC, 48-pin QFP; Manufacturer: Silicon Labs; PartNumber: C8051F707-GQ; Comparators: 1; Debug Interface: C2; Dig I/O Pins: 39; Flash: 16 kB; Internal Osc. Accuracy: +/-2%; MCU Core: 8051; MHz: 25; PCA Channels: 3; RAM: 0.5 kB; Temp Sensor: FALSE; Timers (16-bit): 4; Sub-Family: Capacitive Touch Sense MCUs; DatasheetVersion: Rev. 1.0; PackageReference: TQFP-48; PackageDescription: 48-pin TQFP, Body 7 x 7 mm, Pitch 0.5 mm; Supplier 1: Digi-Key; Supplier Part Number 1: 336-1638-ND; Supplier 2: Mouser; Supplier Part Number 2: 634-C8051F707-GQ; Mounting Technology: Surface Mount; Code_JEDEC: MS-026; Code_IPC: J-STD-020; ComponentLink1Description: Manufacturer URL; ComponentLink1URL: http://www.silabs.com/; ComponentLink2Description: Datasheet; ComponentLink2URL: http://www.silabs.com/Support Documents/TechnicalDocs/C8051F70x.pdf; ComponentLink3Description: Package Specification; ComponentLink3URL: http://www.silabs.com/Support%20Documents/TechnicalDocs/CP2200.pdf
footprint SLAB-TQFP-48_N (QFP, 48-Leads, Body 7x7mm, Pitch 0.5mm, IPC Medium Density)
footprint SLAB-TQFP-48_L (QFP, 48-Leads, Body 7x7mm, Pitch 0.5mm, IPC High Density)
footprint SLAB-TQFP-48_M (QFP, 48-Leads, Body 7x7mm, Pitch 0.5mm, IPC Low Density)
pins: 1 P6.3 (io) "Port 6.3.", 2 P5.7 (io) "Port 5.7.", 3 P5.6 (io) "Port 5.6.", 4 P5.5 (io) "Port 5.5.", 5 P5.4 (io) "Port 5.4.", 6 P5.3 (io) "Port 5.3.", 7 P5.2 (io) "Port 5.2.", 8 VDD (power) "Power Supply Voltage.", 9 GND (power) "Ground.", 10 P5.1 (io) "Port 5.1.", 11 P5.0 (io) "Port 5.0.", 12 P4.3 (io) "Port 4.3.", 13 P4.2 (io) "Port 4.2.", 14 P4.1 (io) "Port 4.1.", 15 P4.0 (io) "Port 4.0.", 16 P3.7 (io) "Port 3.7.", 17 P3.6 (io) "Port 3.6.", 18 P3.5 (io) "Port 3.5.", 19 P3.4 (io) "Port 3.4.", 20 VDD (power) "Power Supply Voltage.", 21 GND (power) "Ground.", 22 P2.7 (io) "Port 2.7.", 23 P2.6 (io) "Port 2.6.", 24 P2.5 (io) "Port 2.5.", 25 P2.4 (io) "Port 2.4.", 26 P2.3 (io) "Port 2.3.", 27 P2.2 (io) "Port 2.2.", 28 P2.1 (io) "Port 2.1.", 29 P2.0 (io) "Port 2.0.", 30 GND (power) "Ground.", 31 P1.3 (io) "Port 1.3.", 32 P1.2 (io) "Port 1.2.", 33 P1.1 (io) "Port 1.1.", 34 P1.0 (io) "Port 1.0.", 35 P0.7 (io) "Port 0.7.", 36 P0.6 (io) "Port 0.6.", 37 P0.5 (io) "Port 0.5.", 38 P0.4 (io) "Port 0.4.", 39 P0.3/XTAL2 (io), 40 P0.2/XTAL1 (io), 41 P0.1/AGND (io), 42 P0.0/VREF (io), 43 GND (power) "Ground.", 44 VDD (power) "Power Supply Voltage.", 45 ~{RST}/C2CK (io), 46 C2D (io) "Bi-directional data signal for the C2 Debug Interface.", 47 P6.5 (io) "Port 6.5.", 48 P6.4 (io) "Port 6.4."

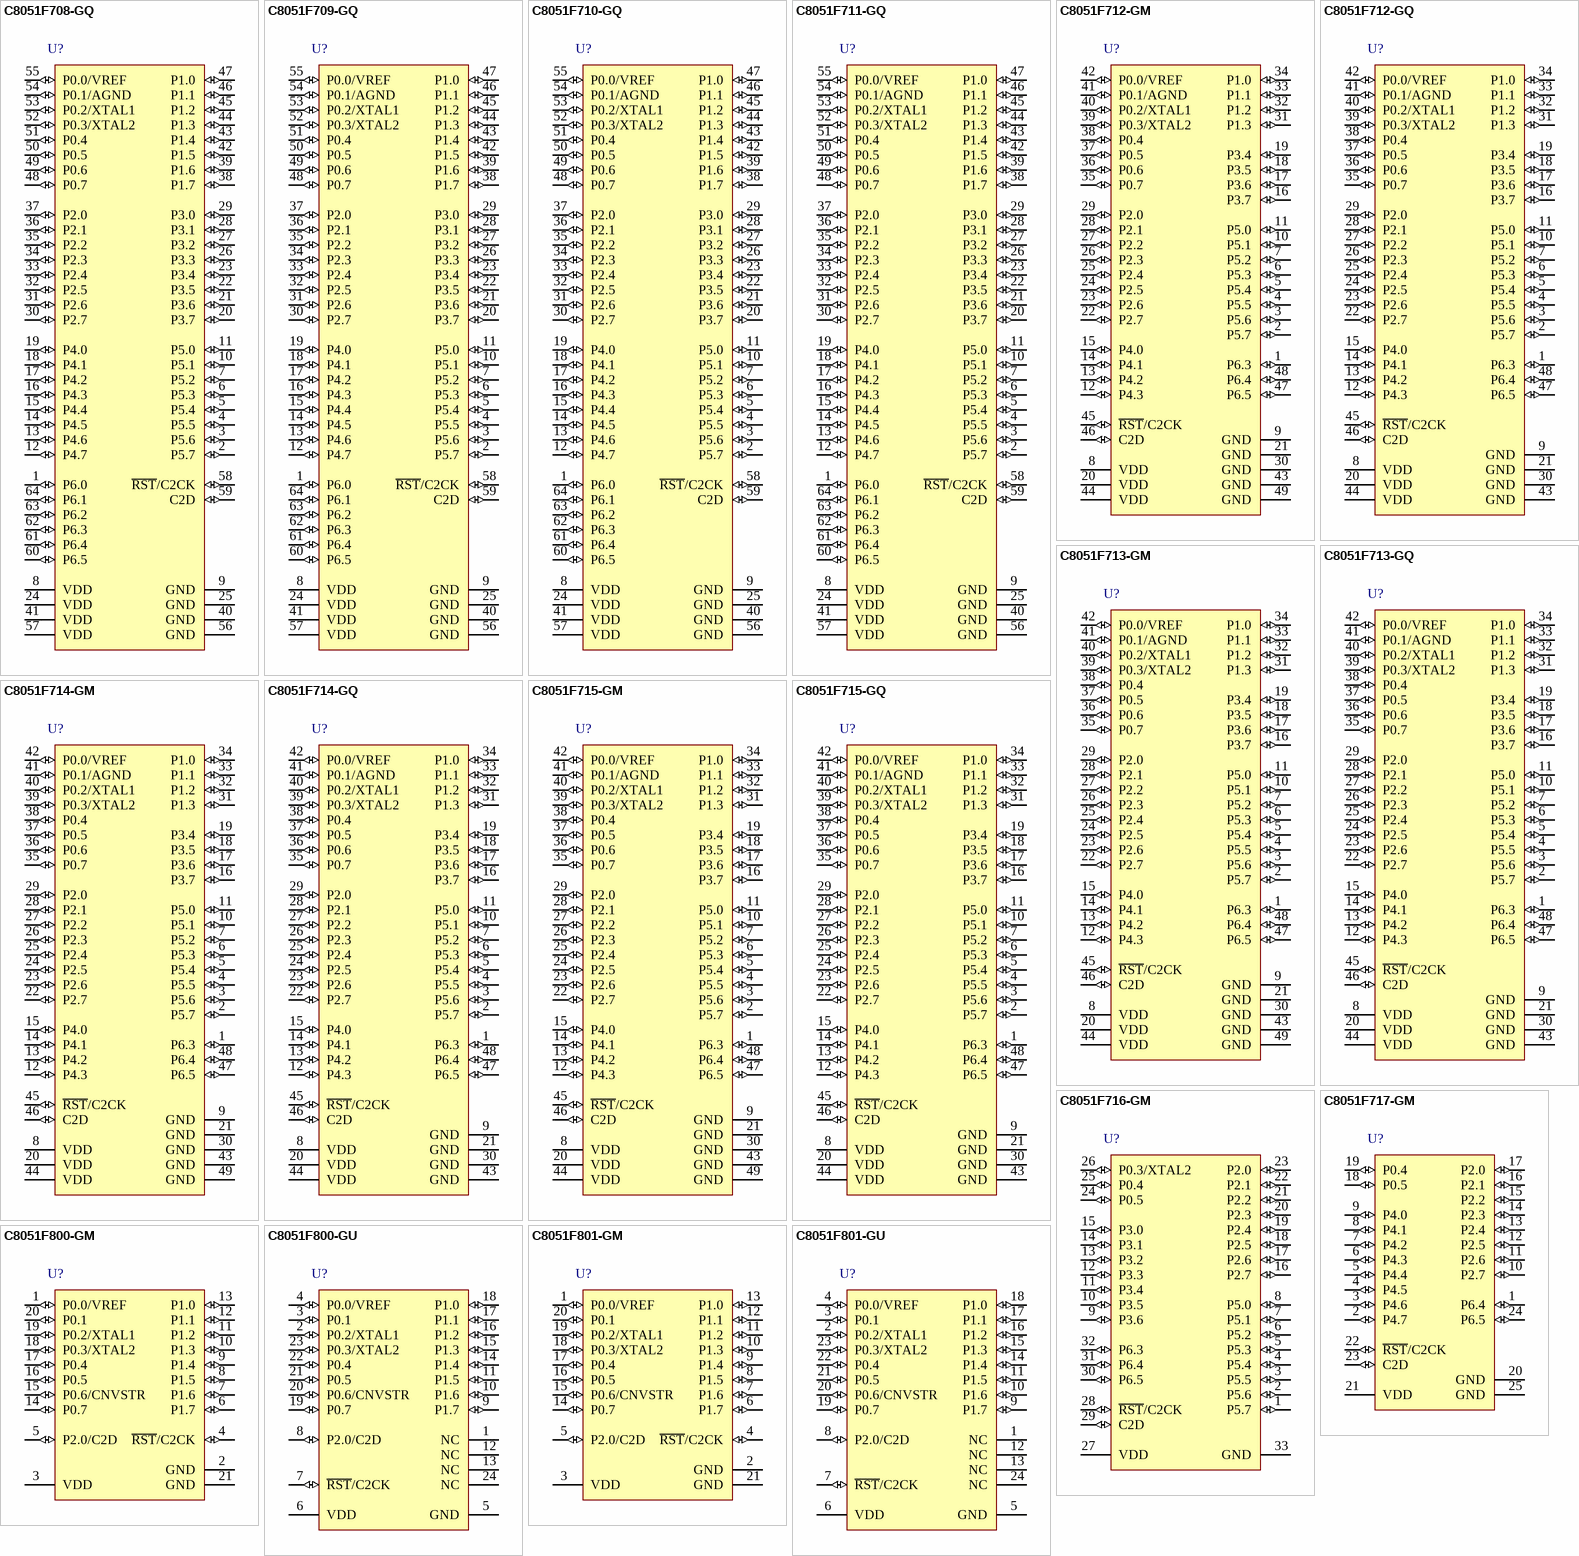
[diagram p1: symbols C8051F708-GQ to C8051F801-GU]

## C8051F708-GQ
designator U?
Mixed Signal ISP Flash MCU Family, 25 MHz, 0.5 kB RAM, 8 kB Flash, -40 to 85 degC, 64-pin QFP; Manufacturer: Silicon Labs; PartNumber: C8051F708-GQ; ADC 1: 10-bit, 16-ch., 500 ksps; Comparators: 1; Debug Interface: C2; Dig I/O Pins: 54; Flash: 8 kB; Internal Osc. Accuracy: +/-2%; MCU Core: 8051; MHz: 25; PCA Channels: 3; RAM: 0.5 kB; Temp Sensor: TRUE; Timers (16-bit): 4; Sub-Family: Capacitive Touch Sense MCUs; DatasheetVersion: Rev. 1.0; PackageReference: TQFP-64; PackageDescription: 64-Pin Thin Quad Flat Package, Body 10 x 10 mm, Pitch 0.5 mm; Supplier 1: Digi-Key; Supplier Part Number 1: 336-1639-ND; Supplier 2: Mouser; Supplier Part Number 2: 634-C8051F708-GQ; Mounting Technology: Surface Mount; Code_JEDEC: MS-026; Code_IPC: J-STD-020; ComponentLink1Description: Manufacturer URL; ComponentLink1URL: http://www.silabs.com/; ComponentLink2Description: Datasheet; ComponentLink2URL: http://www.silabs.com/Support Documents/TechnicalDocs/C8051F70x.pdf; ComponentLink3Description: Package Specification; ComponentLink3URL: http://www.silabs.com/Support%20Documents/TechnicalDocs/C8051F70x.pdf
footprint SLAB-TQFP-64_N (QFP, 64-Leads, Body 10x10mm, Pitch 0.5mm, IPC Medium Density)
footprint SLAB-TQFP-64_L (QFP, 64-Leads, Body 10x10mm, Pitch 0.5mm, IPC High Density)
footprint SLAB-TQFP-64_M (QFP, 64-Leads, Body 10x10mm, Pitch 0.5mm, IPC Low Density)
pins: 1 P6.0 (io) "Port 6.0. CS0 input pin 33.", 2 P5.7 (io) "Port 5.7. CS0 input pin 32.", 3 P5.6 (io) "Port 5.6. CS0 input pin 31.", 4 P5.5 (io) "Port 5.5. CS0 input pin 30.", 5 P5.4 (io) "Port 5.4. CS0 input pin 29.", 6 P5.3 (io) "Port 5.3. CS0 input pin 28.", 7 P5.2 (io) "Port 5.2. CS0 input pin 27", 8 VDD (power) "Power Supply Voltage", 9 GND (power) "Ground.", 10 P5.1 (io) "Port 5.0. CS0 input pin 26.", 11 P5.0 (io) "Port 5.0. CS0 input pin 25.", 12 P4.7 (io) "Port 4.7. CS0 input pin 24.", 13 P4.6 (io) "Port 4.6. CS0 input pin 23.", 14 P4.5 (io) "Port 4.5. CS0 input pin 22.", 15 P4.4 (io) "Port 4.4. CS0 input pin 21.", 16 P4.3 (io) "Port 4.3. CS0 input pin 20.", 17 P4.2 (io) "Port 4.2. CS0 input pin 19.", 18 P4.1 (io) "Port 4.1. CS0 input pin 18.", 19 P4.0 (io) "Port 4.0. CS0 input pin 17.", 20 P3.7 (io) "Port 3.7. CS0 input pin 16.", 21 P3.6 (io) "Port 3.6. CS0 input pin 15.", 22 P3.5 (io) "Port 3.5. CS0 input pin 14.", 23 P3.4 (io) "Port 3.4. CS0 input pin 13.", 24 VDD (power) "Power Supply Voltage", 25 GND (power) "Ground.", 26 P3.3 (io) "Port 3.3. CS0 input pin 12.", 27 P3.2 (io) "Port 3.2. CS0 input pin 11.", 28 P3.1 (io) "Port 3.1. CS0 input pin 10.", 29 P3.0 (io) "Port 3.0. CS0 input pin 9.", 30 P2.7 (io) "Port 2.7. CS0 input pin 8.", 31 P2.6 (io) "Port 2.6. CS0 input pin 7.", 32 P2.5 (io) "Port 2.5. CS0 input pin 6.", 33 P2.4 (io) "Port 2.4. CS0 input pin 5.", 34 P2.3 (io) "Port 2.3. CS0 input pin 4.", 35 P2.2 (io) "Port 2.2. CS0 input pin 3.", 36 P2.1 (io) "Port 2.1. CS0 input pin 2.", 37 P2.0 (io) "Port 2.0. CS0 input pin 1.", 38 P1.7 (io) "Port 1.7. ADC0 Input.", 39 P1.6 (io) "Port 1.6. ADC0 Input.", 40 GND (power) "Ground.", 41 VDD (power) "Power Supply Voltage", 42 P1.5 (io) "Port 1.5. ADC0 Input.", 43 P1.4 (io) "Port 1.4. ADC0 Input.", 44 P1.3 (io) "Port 1.3. ADC0 Input.", 45 P1.2 (io) "Port 1.2. ADC0 Input.", 46 P1.1 (io) "Port 1.1. ADC0 Input.", 47 P1.0 (io) "Port 1.0. ADC0 Input.", 48 P0.7 (io) "Port 0.7. ADC0 Input.", 49 P0.6 (io) "Port 0.6. ADC0 Input.", 50 P0.5 (io) "Port 0.5. ADC0 Input.", 51 P0.4 (io) "Port 0.4. ADC0 Input.", 52 P0.3/XTAL2 (io), 53 P0.2/XTAL1 (io), 54 P0.1/AGND (io), 55 P0.0/VREF (io), 56 GND (power) "Ground.", 57 VDD (power) "Power Supply Voltage", 58 ~{RST}/C2CK (io), 59 C2D (io) "Bi-directional data signal for the C2 Debug Interface.", 60 P6.5 (io) "Port 6.5. CS0 input pin 38.", 61 P6.4 (io) "Port 6.4. CS0 input pin 37.", 62 P6.3 (io) "Port 6.3. CS0 input pin 36.", 63 P6.2 (io) "Port 6.2. CS0 input pin 35.", 64 P6.1 (io) "Port 6.1. CS0 input pin 34."

## C8051F709-GQ
designator U?
Mixed Signal ISP Flash MCU Family, 25 MHz, 0.5 kB RAM, 8 kB Flash, -40 to 85 degC, 64-pin QFP; Manufacturer: Silicon Labs; PartNumber: C8051F709-GQ; Comparators: 1; Debug Interface: C2; Dig I/O Pins: 54; Flash: 8 kB; Internal Osc. Accuracy: +/-2%; MCU Core: 8051; MHz: 25; PCA Channels: 3; RAM: 0.5 kB; Temp Sensor: FALSE; Timers (16-bit): 4; Sub-Family: Capacitive Touch Sense MCUs; DatasheetVersion: Rev. 1.0; PackageReference: TQFP-64; PackageDescription: 64-Pin Thin Quad Flat Package, Body 10 x 10 mm, Pitch 0.5 mm; Supplier 1: Digi-Key; Supplier Part Number 1: 336-1640-ND; Supplier 2: Mouser; Supplier Part Number 2: 634-C8051F709-GQ; Mounting Technology: Surface Mount; Code_JEDEC: MS-026; Code_IPC: J-STD-020; ComponentLink1Description: Manufacturer URL; ComponentLink1URL: http://www.silabs.com/; ComponentLink2Description: Datasheet; ComponentLink2URL: http://www.silabs.com/Support Documents/TechnicalDocs/C8051F70x.pdf; ComponentLink3Description: Package Specification; ComponentLink3URL: http://www.silabs.com/Support%20Documents/TechnicalDocs/C8051F70x.pdf
footprint SLAB-TQFP-64_N (QFP, 64-Leads, Body 10x10mm, Pitch 0.5mm, IPC Medium Density)
footprint SLAB-TQFP-64_L (QFP, 64-Leads, Body 10x10mm, Pitch 0.5mm, IPC High Density)
footprint SLAB-TQFP-64_M (QFP, 64-Leads, Body 10x10mm, Pitch 0.5mm, IPC Low Density)
pins: 1 P6.0 (io) "Port 6.0. CS0 input pin 33.", 2 P5.7 (io) "Port 5.7. CS0 input pin 32.", 3 P5.6 (io) "Port 5.6. CS0 input pin 31.", 4 P5.5 (io) "Port 5.5. CS0 input pin 30.", 5 P5.4 (io) "Port 5.4. CS0 input pin 29.", 6 P5.3 (io) "Port 5.3. CS0 input pin 28.", 7 P5.2 (io) "Port 5.2. CS0 input pin 27", 8 VDD (power) "Power Supply Voltage", 9 GND (power) "Ground.", 10 P5.1 (io) "Port 5.0. CS0 input pin 26.", 11 P5.0 (io) "Port 5.0. CS0 input pin 25.", 12 P4.7 (io) "Port 4.7. CS0 input pin 24.", 13 P4.6 (io) "Port 4.6. CS0 input pin 23.", 14 P4.5 (io) "Port 4.5. CS0 input pin 22.", 15 P4.4 (io) "Port 4.4. CS0 input pin 21.", 16 P4.3 (io) "Port 4.3. CS0 input pin 20.", 17 P4.2 (io) "Port 4.2. CS0 input pin 19.", 18 P4.1 (io) "Port 4.1. CS0 input pin 18.", 19 P4.0 (io) "Port 4.0. CS0 input pin 17.", 20 P3.7 (io) "Port 3.7. CS0 input pin 16.", 21 P3.6 (io) "Port 3.6. CS0 input pin 15.", 22 P3.5 (io) "Port 3.5. CS0 input pin 14.", 23 P3.4 (io) "Port 3.4. CS0 input pin 13.", 24 VDD (power) "Power Supply Voltage", 25 GND (power) "Ground.", 26 P3.3 (io) "Port 3.3. CS0 input pin 12.", 27 P3.2 (io) "Port 3.2. CS0 input pin 11.", 28 P3.1 (io) "Port 3.1. CS0 input pin 10.", 29 P3.0 (io) "Port 3.0. CS0 input pin 9.", 30 P2.7 (io) "Port 2.7. CS0 input pin 8.", 31 P2.6 (io) "Port 2.6. CS0 input pin 7.", 32 P2.5 (io) "Port 2.5. CS0 input pin 6.", 33 P2.4 (io) "Port 2.4. CS0 input pin 5.", 34 P2.3 (io) "Port 2.3. CS0 input pin 4.", 35 P2.2 (io) "Port 2.2. CS0 input pin 3.", 36 P2.1 (io) "Port 2.1. CS0 input pin 2.", 37 P2.0 (io) "Port 2.0. CS0 input pin 1.", 38 P1.7 (io) "Port 1.7. ADC0 Input.", 39 P1.6 (io) "Port 1.6. ADC0 Input.", 40 GND (power) "Ground.", 41 VDD (power) "Power Supply Voltage", 42 P1.5 (io) "Port 1.5. ADC0 Input.", 43 P1.4 (io) "Port 1.4. ADC0 Input.", 44 P1.3 (io) "Port 1.3. ADC0 Input.", 45 P1.2 (io) "Port 1.2. ADC0 Input.", 46 P1.1 (io) "Port 1.1. ADC0 Input.", 47 P1.0 (io) "Port 1.0. ADC0 Input.", 48 P0.7 (io) "Port 0.7. ADC0 Input.", 49 P0.6 (io) "Port 0.6. ADC0 Input.", 50 P0.5 (io) "Port 0.5. ADC0 Input.", 51 P0.4 (io) "Port 0.4. ADC0 Input.", 52 P0.3/XTAL2 (io), 53 P0.2/XTAL1 (io), 54 P0.1/AGND (io), 55 P0.0/VREF (io), 56 GND (power) "Ground.", 57 VDD (power) "Power Supply Voltage", 58 ~{RST}/C2CK (io), 59 C2D (io) "Bi-directional data signal for the C2 Debug Interface.", 60 P6.5 (io) "Port 6.5. CS0 input pin 38.", 61 P6.4 (io) "Port 6.4. CS0 input pin 37.", 62 P6.3 (io) "Port 6.3. CS0 input pin 36.", 63 P6.2 (io) "Port 6.2. CS0 input pin 35.", 64 P6.1 (io) "Port 6.1. CS0 input pin 34."